# EAGLE library part _IC_CAN_TRX_SOIC-8_(ATA6560-GAQW) (library SamacSys_Parts)
CAN Interface IC Industrial Grade CAN TRX with NSIL PIN (SO8) Source: Datasheet
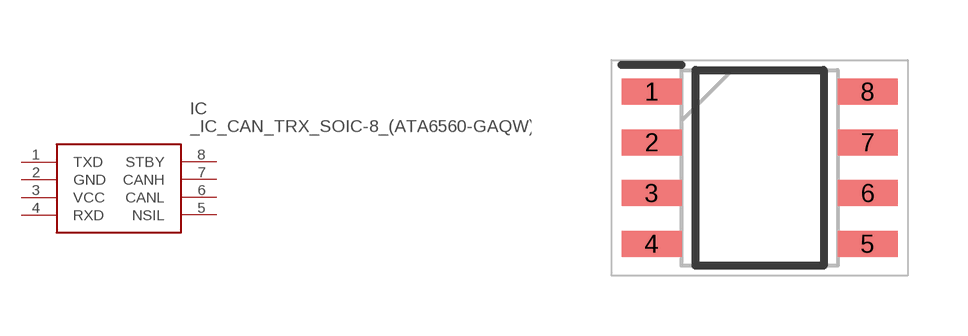
[diagram p24: symbol with the pads of SOIC127P600X175-8N; footprint SOIC127P600X175-8N]

Designator prefix IC

## _IC_CAN_TRX_SOIC-8_(ATA6560-GAQW) (DESCRIPTION: CAN Interface IC Industrial Grade CAN TRX with NSIL PIN (SO8); HEIGHT: 1.75mm; MANUFACTURER_NAME: Microchip; MANUFACTURER_PART_NUMBER: ATA6560-GAQW-N; MOUSER_PART_NUMBER: 579-ATA6560-GAQW-N; MOUSER_PRICE-STOCK: https://www.mouser.co.uk/ProductDetail/Microchip-Technology/ATA6560-GAQW-N?qs=y6ZabgHbY%252By0WOzqKXUktg%3D%3D)  [SOIC127P600X175-8N]
1  TXD
2  GND
3  VCC
4  RXD
5  NSIL
6  CANL
7  CANH
8  STBY

## Footprint SOIC127P600X175-8N (pad centres in mm)
ATA6560-GAQW-N-1
smd 1.5 x 0.65: 1 -2.7,1.905; 2 -2.7,0.635; 3 -2.7,-0.635; 4 -2.7,-1.905; 5 2.7,-1.905; 6 2.7,-0.635; 7 2.7,0.635; 8 2.7,1.905